# Altium integrated library PC817-B.IntLib: 1 symbol
Pins are listed as number, name and electrical type; pins without a type are passive.

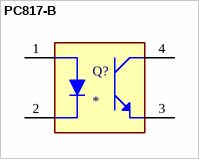
[diagram p0: symbol PC817-B]

## PC817-B
designator Q?
Phototransistors 4-DIP (0.300, 7.62mm); MF: American Bright; MP: PC817-B; SnapEDA_Link: https://www.snapeda.com/parts/PC817-B/American+Bright/view-part/?ref=snap; Package: DIP-4 American Bright; Value: *; Check_prices: https://www.snapeda.com/parts/PC817-B/American+Bright/view-part/?ref=eda
footprint DIP762W50P254L650H455Q4B
pins: 1 ANODE, 2 CATHODE, 3 EMITTER, 4 COLLECTOR